# Altium footprint library CAPC3225X27.PcbLib: 1 footprints
Each footprint in its own frame and in the unit in brackets; x right, y up, seen from the top. Pads: shape width x height; smd on the part's side, far side on the other; paste and mask are expansions set on the pad; w line width, h text height; cw(c..) or ccw(c..) is an arc to the next point about the centre after c.
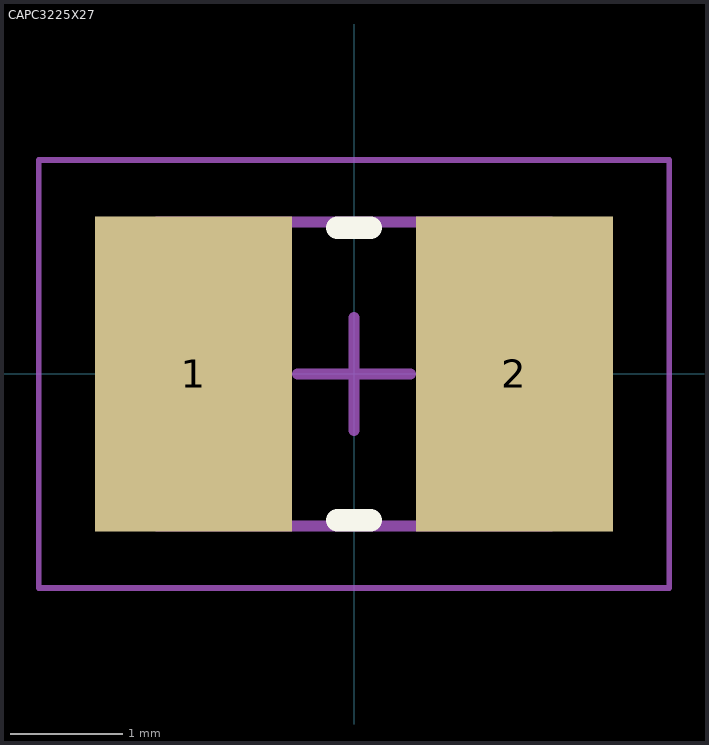
[diagram p0: the footprint, top view; thin cyan lines are the x and y axes]

## CAPC3225X27 [mm] "Chip Capacitor, 2-Leads, Body 3,20x2,50mm, IPC Low Density 1210"
height 2.7
pads (2):
  rect 1.75x2.8 smd: 1(-1.425,0) 2(1.425,0)
Top Overlay:
  lines w0.2: -0.15,-1.3 0.15,-1.3 ; -0.15,1.3 0.15,1.3
3D Body:
  lines w0.1: -1.75,-1.35 -1.75,1.35 1.75,1.35 1.75,-1.35 -1.75,-1.35
Board:
  lines w0.05: -2.8,-1.9 -2.8,1.9 2.8,1.9 2.8,-1.9 -2.8,-1.9
  lines w0.1: -0.5,0 0.5,0 ; 0,-0.5 0,0.5
3D body: height 2.7, standoff 0, extent -1.15,-1.35 1.15,1.35
3D body: height 2.7, standoff 0, extent -1.75,-1.35 -1.15,1.35
3D body: height 2.7, standoff 0, extent 1.15,-1.35 1.75,1.35